# EAGLE library part 1298-25 (library con-commcon)
.800" BOARD SPACE 2mm CONNECTORS - HI TEMP TWO ROW 2mm - STACKTHROUGH
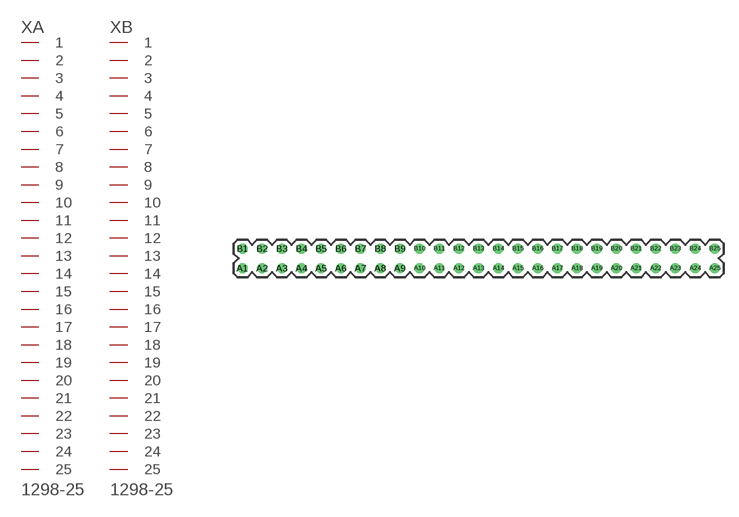
[diagram p7: symbol with the pads of 1298-25; footprint 1298-25]

Designator prefix X; gates A=PIN25 B=PIN25

## 1298-25  [1298-25]
A1  A:1  pas
A2  A:2  pas
A3  A:3  pas
A4  A:4  pas
A5  A:5  pas
A6  A:6  pas
A7  A:7  pas
A8  A:8  pas
A9  A:9  pas
A10  A:10  pas
A11  A:11  pas
A12  A:12  pas
A13  A:13  pas
A14  A:14  pas
A15  A:15  pas
A16  A:16  pas
A17  A:17  pas
A18  A:18  pas
A19  A:19  pas
A20  A:20  pas
A21  A:21  pas
A22  A:22  pas
A23  A:23  pas
A24  A:24  pas
A25  A:25  pas
B1  B:1  pas
B2  B:2  pas
B3  B:3  pas
B4  B:4  pas
B5  B:5  pas
B6  B:6  pas
B7  B:7  pas
B8  B:8  pas
B9  B:9  pas
B10  B:10  pas
B11  B:11  pas
B12  B:12  pas
B13  B:13  pas
B14  B:14  pas
B15  B:15  pas
B16  B:16  pas
B17  B:17  pas
B18  B:18  pas
B19  B:19  pas
B20  B:20  pas
B21  B:21  pas
B22  B:22  pas
B23  B:23  pas
B24  B:24  pas
B25  B:25  pas

## Footprint 1298-25 (pad centres in mm)
.800" BOARD SPACE 2mm CONNECTORS - HI TEMP TWO ROW 2mm - STACKTHROUGH
drill 0.508 round: A1 -24,-1; A2 -22,-1; A3 -20,-1; A4 -18,-1; A5 -16,-1; A6 -14,-1; A7 -12,-1; A8 -10,-1; A9 -8,-1; A10 -6,-1; A11 -4,-1; A12 -2,-1; A13 0,-1; A14 2,-1; A15 4,-1; A16 6,-1; A17 8,-1; A18 10,-1; A19 12,-1; A20 14,-1; A21 16,-1; A22 18,-1; A23 20,-1; A24 22,-1; A25 24,-1; B1 -24,1; B2 -22,1; B3 -20,1; B4 -18,1; B5 -16,1; B6 -14,1; B7 -12,1; B8 -10,1; B9 -8,1; B10 -6,1; B11 -4,1; B12 -2,1; B13 0,1; B14 2,1; B15 4,1; B16 6,1; B17 8,1; B18 10,1; B19 12,1; B20 14,1; B21 16,1; B22 18,1; B23 20,1; B24 22,1; B25 24,1